# Altium footprint library C1206(3216)x0.85.PcbLib: 1 footprints
Each footprint in its own frame and in the unit in brackets; x right, y up, seen from the top. Pads: shape width x height; smd on the part's side, far side on the other; paste and mask are expansions set on the pad; w line width, h text height; cw(c..) or ccw(c..) is an arc to the next point about the centre after c.
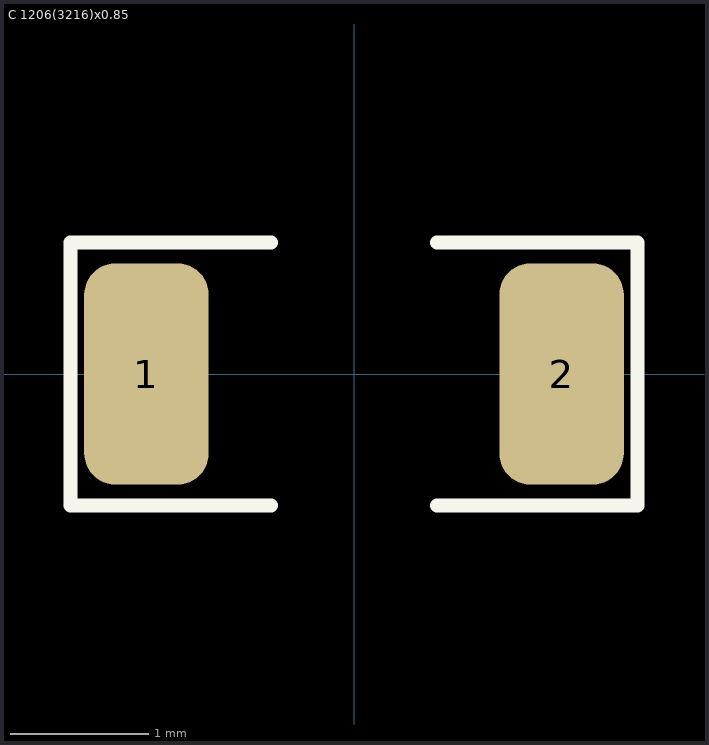
[diagram p0: the footprint, top view; thin cyan lines are the x and y axes]

## C 1206(3216)x0.85 [mm]
height 0.85
pads (2):
  rrect50% 0.9x1.6 smd mask+0.102: 1(-1.5,0) 2(1.5,0)
Top Overlay:
  lines w0.1: -0.6,-0.95 -2.05,-0.95 -2.05,0.95 -0.6,0.95 ; 0.6,-0.95 2.05,-0.95 2.05,0.95 0.6,0.95
3D body "Cap 1206(3216)x85N.STEP": height 0.86, standoff 0, extent -1.6,-0.8 1.6,0.8